# Altium schematic symbol library MrKoi_Lib_Sch.SchLib: 21 symbols
Pins are listed as number, name and electrical type; pins without a type are passive.

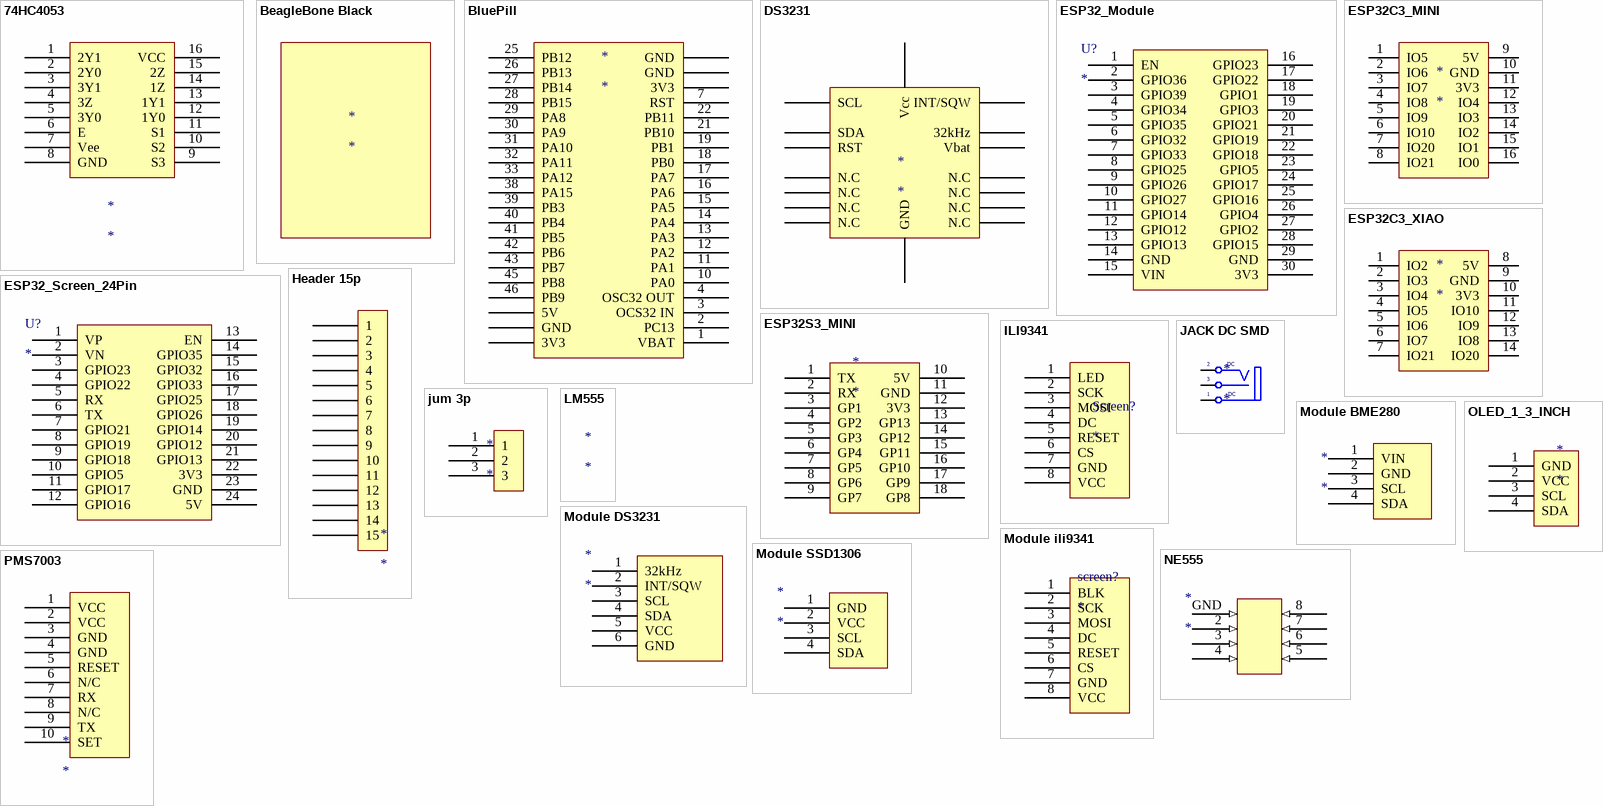
[diagram p0: symbols 74HC4053 to PMS7003]

## 74HC4053
designator *
footprint 74HC4053
pins: 1 2Y1, 2 2Y0, 3 3Y1, 4 3Z, 5 3Y0, 6 E, 7 Vee, 8 GND, 9 S3, 10 S2, 11 S1, 12 1Y0, 13 1Y1, 14 1Z, 15 2Z, 16 VCC

## BeagleBone Black
designator *
footprint BeagleBone Black

## BluePill
designator *
footprint Blue Pill
pins: 1 VBAT, 2 PC13, 3 OCS32 IN, 4 OSC32 OUT, 7 RST, 10 PA0, 11 PA1, 12 PA2, 13 PA3, 14 PA4, 15 PA5, 16 PA6, 17 PA7, 18 PB0, 19 PB1, 21 PB10, 22 PB11, 25 PB12, 26 PB13, 27 PB14, 28 PB15, 29 PA8, 30 PA9, 31 PA10, 32 PA11, 33 PA12, 38 PA15, 39 PB3, 40 PB4, 41 PB5, 42 PB6, 43 PB7, 45 PB8, 46 PB9, 47 5V, 48 GND, 49 3V3, 50 GND, 51 GND, 52 3V3

## DS3231
designator *
footprint Module DS3231
pins: 31 N.C, 32 N.C, 33 N.C, 34 N.C, 35 Vbat, 36 32kHz, 37 INT/SQW, 38 SCL, 39 SDA, 40 RST, 41 N.C, 42 N.C, 43 N.C, 44 N.C, 45 GND, 46 Vcc

## ESP32_Module
designator U?
footprint ESP32_Module
pins: 1 EN, 2 GPIO36, 3 GPIO39, 4 GPIO34, 5 GPIO35, 6 GPIO32, 7 GPIO33, 8 GPIO25, 9 GPIO26, 10 GPIO27, 11 GPIO14, 12 GPIO12, 13 GPIO13, 14 GND, 15 VIN, 16 GPIO23, 17 GPIO22, 18 GPIO1, 19 GPIO3, 20 GPIO21, 21 GPIO19, 22 GPIO18, 23 GPIO5, 24 GPIO17, 25 GPIO16, 26 GPIO4, 27 GPIO2, 28 GPIO15, 29 GND, 30 3V3

## ESP32_Screen_24Pin
designator U?
footprint ESP32_Module_Screen_24Pin
footprint ESP32_Module_Screen_24Pin_N3D
pins: 1 VP, 2 VN, 3 GPIO23, 4 GPIO22, 5 RX, 6 TX, 7 GPIO21, 8 GPIO19, 9 GPIO18, 10 GPIO5, 11 GPIO17, 12 GPIO16, 13 EN, 14 GPIO35, 15 GPIO32, 16 GPIO33, 17 GPIO25, 18 GPIO26, 19 GPIO14, 20 GPIO12, 21 GPIO13, 22 3V3, 23 GND, 24 5V

## ESP32C3_MINI
designator *
footprint ESP32C3_Mini
pins: 1 IO5, 2 IO6, 3 IO7, 4 IO8, 5 IO9, 6 IO10, 7 IO20, 8 IO21, 9 5V, 10 GND, 11 3V3, 12 IO4, 13 IO3, 14 IO2, 15 IO1, 16 IO0

## ESP32C3_XIAO
designator *
footprint ESP32C3_XIAO
pins: 1 IO2, 2 IO3, 3 IO4, 4 IO5, 5 IO6, 6 IO7, 7 IO21, 8 5V, 9 GND, 10 3V3, 11 IO10, 12 IO9, 13 IO8, 14 IO20

## ESP32S3_MINI
designator *
footprint ESP32S3_MINI
pins: 1 TX, 2 RX, 3 GP1, 4 GP2, 5 GP3, 6 GP4, 7 GP5, 8 GP6, 9 GP7, 10 5V, 11 GND, 12 3V3, 13 GP13, 14 GP12, 15 GP11, 16 GP10, 17 GP9, 18 GP8

## Header 15p
designator *
footprint Header 15p
pins: 1, 2, 3, 4, 5, 6, 7, 8, 9, 10, 11, 12, 13, 14, 15

## ILI9341
designator Screen?
footprint ILI9341
pins: 1 LED "Screen", 2 SCK, 3 MOSI, 4 DC, 5 RESET, 6 CS, 7 GND, 8 VCC

## JACK DC SMD
designator *
footprint JACK DC SMD
pins: 1 T "Tip", 2 TN "Tip Normal (Break Contact)", 3 S (power) "Sleeve (Ground)"
text: -DC; +DC

## jum 3p
designator *
footprint jum 3p
pins: 1, 2, 3

## LM555
designator *

## Module BME280
designator *
footprint Module BME280
pins: 1 VIN, 2 GND, 3 SCL, 4 SDA

## Module DS3231
designator *
footprint Module DS3231
pins: 1 32kHz, 2 INT/SQW, 3 SCL, 4 SDA, 5 VCC, 6 GND

## Module ili9341
designator screen?
footprint Module ILI9341
footprint ILI9341
pins: 1 BLK, 2 SCK, 3 MOSI, 4 DC, 5 RESET, 6 CS, 7 GND, 8 VCC

## Module SSD1306
designator *
footprint Module SSD1306
pins: 1 GND, 2 VCC, 3 SCL, 4 SDA

## NE555
designator *
pins: 2 (in), 3 (in), 4 (in), 5 (in), 6 (in), 7 (in), 8 (in), GND (in)

## OLED_1_3_INCH
designator *
footprint OLED_1_3_INCH
pins: 1 GND, 2 VCC, 3 SCL, 4 SDA

## PMS7003
designator *
footprint PMS7003 (Module 25.5mm x 18mm x 3.1mm)
footprint PMS7003_2
pins: 1 VCC, 2 VCC, 3 GND, 4 GND, 5 RESET, 6 N/C, 7 RX, 8 N/C, 9 TX, 10 SET